# Altium schematic symbol library WE-SL5.SchLib: 9 symbols
Pins are listed as number, name and electrical type; pins without a type are passive.

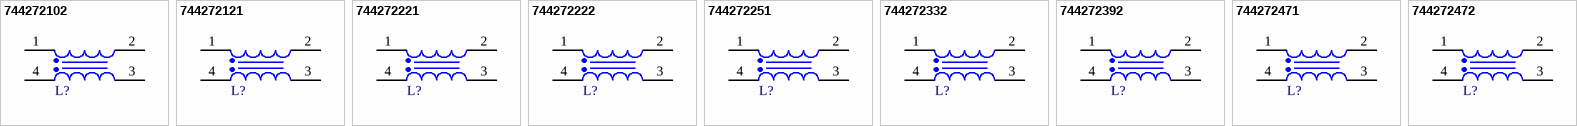
[diagram p0: symbols 744272102 to 744272472]

## 744272102
designator L?, comment 1000uH  (value not drawn)
WE-SL5 SMT Common Mode Line Filter, 1000uH, 0.95A, 0.18Ohm; Manufacturer: Wurth Elektronik; Manufacturer Part Number: 744272102; Impedance Max: 3600Ohm; Number of Windings: 2; Rated Voltage: 80V; Winding Style: sectional; ComponentLink1Description: Manufacturer Link; ComponentLink1URL: https://www.we-online.com/redexpert/article/744272102?ad; ComponentLink2Description: Datasheet; ComponentLink2URL: https://www.we-online.com/redexpert/spec/744272102?ad; Category: Common Mode Chokes; Match Code: WE-SL5; Mount: Surface Mount; Operating Temperature Max: 125°C; Operating Temperature Min: -40°C; Packaging: Tape and Reel; Length: 10mm; Width: 8.7mm; Height: 6.5mm; DC Resistance Max: 0.18Ohm; Inductance: 1000uH; Rated Current: 0.95A
footprint WE-SL5_L10W8.7H6.5
pins: 1, 2, 3, 4

## 744272121
designator L?, comment 120uH  (value not drawn)
WE-SL5 SMT Common Mode Line Filter, 120uH, 2.5A, 0.025Ohm; Manufacturer: Wurth Elektronik; Manufacturer Part Number: 744272121; Impedance Max: 460Ohm; Number of Windings: 2; Rated Voltage: 80V; Winding Style: sectional; ComponentLink1Description: Manufacturer Link; ComponentLink1URL: https://www.we-online.com/redexpert/article/744272121?ad; ComponentLink2Description: Datasheet; ComponentLink2URL: https://www.we-online.com/redexpert/spec/744272121?ad; Category: Common Mode Chokes; Match Code: WE-SL5; Mount: Surface Mount; Operating Temperature Max: 125°C; Operating Temperature Min: -40°C; Packaging: Tape and Reel; Length: 10mm; Width: 8.7mm; Height: 6.5mm; DC Resistance Max: 0.025Ohm; Inductance: 120uH; Rated Current: 2.5A
footprint WE-SL5_L10W8.7H6.5
pins: 1, 2, 3, 4

## 744272221
designator L?, comment 220uH  (value not drawn)
WE-SL5 SMT Common Mode Line Filter, 220uH, 2.2A, 0.032Ohm; Manufacturer: Wurth Elektronik; Manufacturer Part Number: 744272221; Impedance Max: 780Ohm; Number of Windings: 2; Rated Voltage: 80V; Winding Style: sectional; ComponentLink1Description: Manufacturer Link; ComponentLink1URL: https://www.we-online.com/redexpert/article/744272221?ad; ComponentLink2Description: Datasheet; ComponentLink2URL: https://www.we-online.com/redexpert/spec/744272221?ad; Category: Common Mode Chokes; Match Code: WE-SL5; Mount: Surface Mount; Operating Temperature Max: 125°C; Operating Temperature Min: -40°C; Packaging: Tape and Reel; Length: 10mm; Width: 8.7mm; Height: 6.5mm; DC Resistance Max: 0.032Ohm; Inductance: 220uH; Rated Current: 2.2A
footprint WE-SL5_L10W8.7H6.5
pins: 1, 2, 3, 4

## 744272222
designator L?, comment 2200uH  (value not drawn)
WE-SL5 SMT Common Mode Line Filter, 2200uH, 0.75A, 0.3Ohm; Manufacturer: Wurth Elektronik; Manufacturer Part Number: 744272222; Impedance Max: 7500Ohm; Number of Windings: 2; Rated Voltage: 80V; Winding Style: bifilar; ComponentLink1Description: Manufacturer Link; ComponentLink1URL: https://www.we-online.com/redexpert/article/744272222?ad; ComponentLink2Description: Datasheet; ComponentLink2URL: https://www.we-online.com/redexpert/spec/744272222?ad; Category: Common Mode Chokes; Match Code: WE-SL5; Mount: Surface Mount; Operating Temperature Max: 125°C; Operating Temperature Min: -40°C; Packaging: Tape and Reel; Length: 10mm; Width: 8.7mm; Height: 6.5mm; DC Resistance Max: 0.3Ohm; Inductance: 2200uH; Rated Current: 0.75A
footprint WE-SL5_L10W8.7H6.5
pins: 1, 2, 3, 4

## 744272251
designator L?, comment 250uH  (value not drawn)
WE-SL5 SMT Common Mode Line Filter, 250uH, 2A, 0.035Ohm; Manufacturer: Wurth Elektronik; Manufacturer Part Number: 744272251; Impedance Max: 970Ohm; Number of Windings: 2; Rated Voltage: 80V; Winding Style: sectional; ComponentLink1Description: Manufacturer Link; ComponentLink1URL: https://www.we-online.com/redexpert/article/744272251?ad; ComponentLink2Description: Datasheet; ComponentLink2URL: https://www.we-online.com/redexpert/spec/744272251?ad; Category: Common Mode Chokes; Match Code: WE-SL5; Mount: Surface Mount; Operating Temperature Max: 125°C; Operating Temperature Min: -40°C; Packaging: Tape and Reel; Length: 10mm; Width: 8.7mm; Height: 6.5mm; DC Resistance Max: 0.035Ohm; Inductance: 250uH; Rated Current: 2A
footprint WE-SL5_L10W8.7H6.5
pins: 1, 2, 3, 4

## 744272332
designator L?, comment 3300uH  (value not drawn)
WE-SL5 SMT Common Mode Line Filter, 3300uH, 0.65A, 0.36Ohm; Manufacturer: Wurth Elektronik; Manufacturer Part Number: 744272332; Impedance Max: 8900Ohm; Number of Windings: 2; Rated Voltage: 80V; Winding Style: bifilar; ComponentLink1Description: Manufacturer Link; ComponentLink1URL: https://www.we-online.com/redexpert/article/744272332?ad; ComponentLink2Description: Datasheet; ComponentLink2URL: https://www.we-online.com/redexpert/spec/744272332?ad; Category: Common Mode Chokes; Match Code: WE-SL5; Mount: Surface Mount; Operating Temperature Max: 125°C; Operating Temperature Min: -40°C; Packaging: Tape and Reel; Length: 10mm; Width: 8.7mm; Height: 6.5mm; DC Resistance Max: 0.36Ohm; Inductance: 3300uH; Rated Current: 0.65A
footprint WE-SL5_L10W8.7H6.5
pins: 1, 2, 3, 4

## 744272392
designator L?, comment 3900uH  (value not drawn)
WE-SL5 SMT Common Mode Line Filter, 3900uH, 0.52A, 0.54Ohm; Manufacturer: Wurth Elektronik; Manufacturer Part Number: 744272392; Impedance Max: 9600Ohm; Number of Windings: 2; Rated Voltage: 80V; Winding Style: bifilar; ComponentLink1Description: Manufacturer Link; ComponentLink1URL: https://www.we-online.com/redexpert/article/744272392?ad; ComponentLink2Description: Datasheet; ComponentLink2URL: https://www.we-online.com/redexpert/spec/744272392?ad; Category: Common Mode Chokes; Match Code: WE-SL5; Mount: Surface Mount; Operating Temperature Max: 125°C; Operating Temperature Min: -40°C; Packaging: Tape and Reel; Length: 10mm; Width: 8.7mm; Height: 6.5mm; DC Resistance Max: 0.54Ohm; Inductance: 3900uH; Rated Current: 0.52A
footprint WE-SL5_L10W8.7H6.5
pins: 1, 2, 3, 4

## 744272471
designator L?, comment 470uH  (value not drawn)
WE-SL5 SMT Common Mode Line Filter, 470uH, 1.6A, 0.065Ohm; Manufacturer: Wurth Elektronik; Manufacturer Part Number: 744272471; Impedance Max: 1750Ohm; Number of Windings: 2; Rated Voltage: 80V; Winding Style: sectional; ComponentLink1Description: Manufacturer Link; ComponentLink1URL: https://www.we-online.com/redexpert/article/744272471?ad; ComponentLink2Description: Datasheet; ComponentLink2URL: https://www.we-online.com/redexpert/spec/744272471?ad; Category: Common Mode Chokes; Match Code: WE-SL5; Mount: Surface Mount; Operating Temperature Max: 125°C; Operating Temperature Min: -40°C; Packaging: Tape and Reel; Length: 10mm; Width: 8.7mm; Height: 6.5mm; DC Resistance Max: 0.065Ohm; Inductance: 470uH; Rated Current: 1.6A
footprint WE-SL5_L10W8.7H6.5
pins: 1, 2, 3, 4

## 744272472
designator L?, comment 4700uH  (value not drawn)
WE-SL5 SMT Common Mode Line Filter, 4700uH, 0.35A, 0.72Ohm; Manufacturer: Wurth Elektronik; Manufacturer Part Number: 744272472; Impedance Max: 13000Ohm; Number of Windings: 2; Rated Voltage: 80V; Winding Style: bifilar; ComponentLink1Description: Manufacturer Link; ComponentLink1URL: https://www.we-online.com/redexpert/article/744272472?ad; ComponentLink2Description: Datasheet; ComponentLink2URL: https://www.we-online.com/redexpert/spec/744272472?ad; Category: Common Mode Chokes; Match Code: WE-SL5; Mount: Surface Mount; Operating Temperature Max: 125°C; Operating Temperature Min: -40°C; Packaging: Tape and Reel; Length: 10mm; Width: 8.7mm; Height: 6.5mm; DC Resistance Max: 0.72Ohm; Inductance: 4700uH; Rated Current: 0.35A
footprint WE-SL5_L10W8.7H6.5
pins: 1, 2, 3, 4